# EAGLE library part 74273 (library dooba)
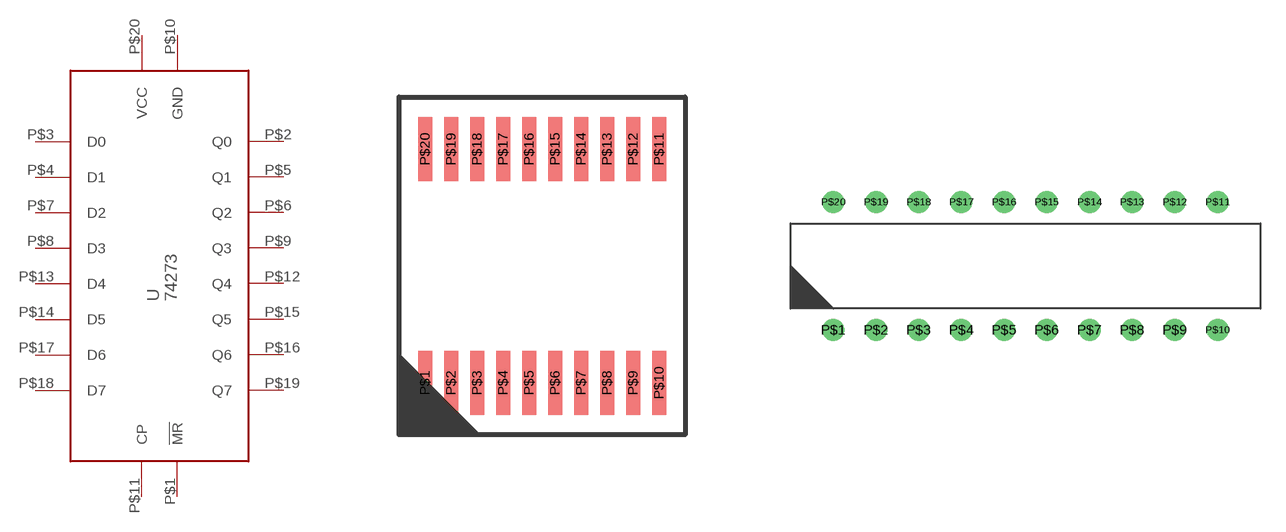
[diagram p36: symbol with the pads of TSSOP-20; footprints TSSOP-20, PDIP20]

Designator prefix U

## 74273TSSOP-20  [TSSOP-20]
P$1  !MR
P$2  Q0
P$3  D0
P$4  D1
P$5  Q1
P$6  Q2
P$7  D2
P$8  D3
P$9  Q3
P$10  GND
P$11  CP
P$12  Q4
P$13  D4
P$14  D5
P$15  Q5
P$16  Q6
P$17  D6
P$18  D7
P$19  Q7
P$20  VCC

## 74273PDIP  [PDIP20]
Pads as for TSSOP-20

## 74273DW  [SO20]
Pads as for TSSOP-20

## Footprint TSSOP-20 (pad centres in mm)
smd 0.35 x 1.6: P$1 -2.925,-2.925; P$2 -2.275,-2.925; P$3 -1.625,-2.925; P$4 -0.975,-2.925; P$5 -0.325,-2.925; P$6 0.325,-2.925; P$7 0.975,-2.925; P$8 1.625,-2.925; P$9 2.275,-2.925; P$10 2.925,-2.925; P$11 2.925,2.925; P$12 2.275,2.925; P$13 1.625,2.925; P$14 0.975,2.925; P$15 0.325,2.925; P$16 -0.325,2.925; P$17 -0.975,2.925; P$18 -1.625,2.925; P$19 -2.275,2.925; P$20 -2.925,2.925

## Footprint PDIP20 (pad centres in mm)
drill 0.8: P$1 -11.43,-3.81; P$2 -8.89,-3.81; P$3 -6.35,-3.81; P$4 -3.81,-3.81; P$5 -1.27,-3.81; P$6 1.27,-3.81; P$7 3.81,-3.81; P$8 6.35,-3.81; P$9 8.89,-3.81; P$10 11.43,-3.81; P$11 11.43,3.81; P$12 8.89,3.81; P$13 6.35,3.81; P$14 3.81,3.81; P$15 1.27,3.81; P$16 -1.27,3.81; P$17 -3.81,3.81; P$18 -6.35,3.81; P$19 -8.89,3.81; P$20 -11.43,3.81

## Footprint SO20 (pad centres in mm)
smd 0.6 x 2: P$1 -5.715,-4.65; P$2 -4.445,-4.65; P$3 -3.175,-4.65; P$4 -1.905,-4.65; P$5 -0.635,-4.65; P$6 0.635,-4.65; P$7 1.905,-4.65; P$8 3.175,-4.65; P$9 4.445,-4.65; P$10 5.715,-4.65; P$11 5.715,4.65; P$12 4.445,4.65; P$13 3.175,4.65; P$14 1.905,4.65; P$15 0.635,4.65; P$16 -0.635,4.65; P$17 -1.905,4.65; P$18 -3.175,4.65; P$19 -4.445,4.65; P$20 -5.715,4.65